# Altium schematic symbol library SCH - LEVEL TRANSLATOR - ONSEMI NLSX4373.SchLib: 1 symbol
Pins are listed as number, name and electrical type; pins without a type are passive.

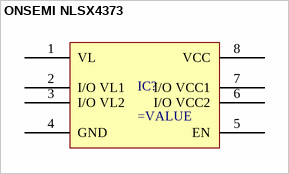
[diagram p0: symbol ONSEMI NLSX4373]

## ONSEMI NLSX4373
designator IC?
pins: 1 VL, 2 I/O VL1, 3 I/O VL2, 4 GND, 5 EN, 6 I/O VCC2, 7 I/O VCC1, 8 VCC